# Altium schematic symbol library emi_filter.SchLib: 35 symbols
Pins are listed as number, name and electrical type; pins without a type are passive.

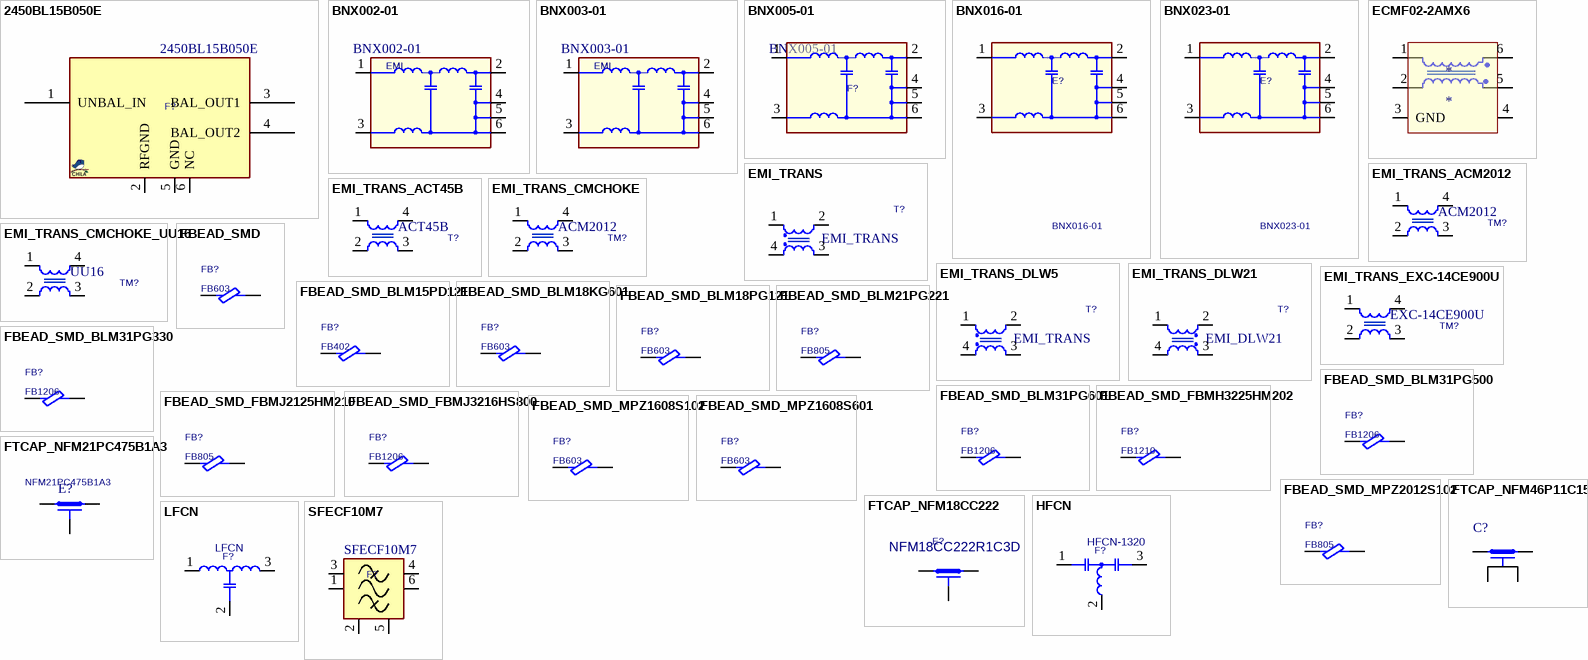
[diagram p0: symbols 2450BL15B050E to SFECF10M7]

## 2450BL15B050E
designator F?
High Frequency Ceramic Balun, 2.45 GHz; MANF: Johanson; PARAM2: 0.5W, 30mA; PARAM: 2.45GHz, 50Ohms, -40~85oC; MANF_P#: 2450BL15B050E; PRICE: 0.36$; VALUE: 2450BL15B050E
footprint FIL_6_0805 (Footprint not found)
pins: 1 UNBAL_IN, 2 RFGND, 3 BAL_OUT1, 4 BAL_OUT2, 5 GND, 6 NC

## BNX002-01
designator EMI
EMIFIL, BLOCK TYPE,; MANF: MURATA; MANF_P#: BNX002-01; VALUE: BNX002-01
footprint BNX002 (Footprint not found)
pins: 1 B, 2 CB, 3 PSG, 4 CG1, 5 CG2, 6 CG3

## BNX003-01
designator EMI
EMIFIL, BLOCK TYPE,; MANF: MURATA; MANF_P#: BNX003-01; VALUE: BNX003-01
footprint BNX002 (Footprint not found)
pins: 1 B, 2 CB, 3 PSG, 4 CG1, 5 CG2, 6 CG3

## BNX005-01
designator F?
EMIFIL, BLOCK TYPE,; MANF: MURATA; MANF_P#: BNX005-01; VALUE: BNX005-01
footprint BNX002 (MURATA EMIFIL)
pins: 1 B, 2 CB, 3 PSG, 4 CG1, 5 CG2, 6 CG3

## BNX016-01
designator E?
EMIFIL, BLOCK TYPE, 100kHz~1GHz 40dB min; MANF: Murata; DESC: DESCRIPTION; MANF_P#: BNX016-01; MANF: MURATA; ASSEMBLY: ASSEMBLY; PARAM: PARAM; PRICE: PRICE; VALUE: BNX016-01
footprint BNX01
pins: 1 B, 2 CB, 3 PSG, 4 CG1, 5 CG2, 6 CG3

## BNX023-01
designator E?
EMIFIL, BLOCK TYPE,; MANF: Murata; PARAM: 15A, 100V, -40~125oC, 1M~1GHz; DESC: DESCRIPTION; MANF_P#: BNX023-01; MANF: MURATA; ASSEMBLY: ASSEMBLY; PRICE: 6.5$; VALUE: BNX023-01
footprint BNX02 (MURATA EMIFIL SMD BNX023-01, BNX022)
pins: 1 B, 2 CB, 3 PSG, 4 CG1, 5 CG2, 6 CG3

## ECMF02-2AMX6
designator *
footprint SON40_6_1213 (DFN6 1.2x1.3mm, 6-Leads, Pitch 0.40mm)
pins: 1, 2, 3 GND, 4, 5, 6

## EMI_TRANS
designator T?
VALUE: EMI_TRANS
pins: 1 Pri+, 2 Pri-, 3 Sec-, 4 Sec+

## EMI_TRANS_ACM2012
designator TM?, comment ACM2012
Choke, Common Mode, FER BEAD 90 OHM@100MHZ 130mA 20%; MANF: TDK; MANF_P#: ACM2012-900-2P-T002; PARAM: 90 OHM@100MHZ, 0.4A; PRICE: 1=0.48, 10=0.448, 50=0.42, 100=0.364, 500=0.308, 1000=0.252 (USD); VALUE: ACM2012
footprint ACM2012 (Common Mode Chokes TDK ACM2012)
pins: 1, 2, 3, 4

## EMI_TRANS_ACT45B
designator T?, comment ACT45B
Choke, Common Mode, FER BEAD 90 OHM@100MHZ 130mA 20%; MANF: TDK; MANF_P#: ACT45B-510-2P-TL003; PARAM: 2000ohms 51uH 200mA CAN-BUS AEC-Q200; PRICE: 2$; VALUE: ACT45B
footprint ACT45B (Footprint not found)
pins: 1, 2, 3, 4

## EMI_TRANS_CMCHOKE
designator TM?, comment ACM2012
Choke, Common Mode, FER BEAD 90 OHM@100MHZ 130mA 20%; MANF: TDK; MANF_P#: ACM2012-900-2P-T002; PARAM: 90 OHM@100MHZ, 0.4A; PRICE: 1=0.48, 10=0.448, 50=0.42, 100=0.364, 500=0.308, 1000=0.252 (USD); VALUE: ACM2012
footprint FIL_6_0805 (Footprint not found)
pins: 1, 2, 3, 4

## EMI_TRANS_CMCHOKE_UU16
designator TM?, comment UU16
Choke, Common Mode, UU16; MANF: -; MANF_P#: UU16; PARAM: -; PRICE: -; VALUE: UU16
footprint CMCHOKE_UU16 (COMMON MODE CHOKE, UU16, UT2024)
pins: 1, 2, 3, 4

## EMI_TRANS_DLW5
designator T?, comment EMI_TRANS
EMI TRANS, DLW5; MANF: Murata; MANF_P#: DLW5BTM251TQ2L; PARAM2: 50v, -40°C~105°C; PARAM: 5A, 20mOhm, 250 Ohms@100MHz; PRICE: 1.2$; VALUE: EMI_TRANS
footprint DLW5_4A (EMI filter Murata, DLW5x, 5x5mm)
footprint DLW5_4 (EMI filter Murata, DLW5x, 5x5mm)
pins: 1 Pri+, 2 Pri-, 3 Sec-, 4 Sec+

## EMI_TRANS_DLW21
designator T?, comment EMI_DLW21
Choke, Common Mode; MANF: MURATA; MANF_P#: DLW21HN900SQ2L; PARAM: 90OHM; VALUE: EMI_DLW21
footprint DLW21 (Footprint not found)
pins: 1 Pri+, 2 Pri-, 3 Sec-, 4 Sec+

## EMI_TRANS_EXC-14CE900U
designator TM?, comment EXC-14CE900U
Choke, Common Mode, FER BEAD 90 OHM@100MHZ 130mA 20%; MANF: Panasonic; MANF_P#: EXC-14CE900U; PARAM: 90 OHM@100MHZ; VALUE: EXC-14CE900U
footprint FIL_4_0402X2 (0402X2, 0302, 0.85x0.65mm ,CommMode NoiseFilter)
pins: 1, 2, 3, 4

## FBEAD_SMD
designator FB?, comment FB603
FERRITE_Bead, SMD; MANF: MURATA; PARAM: 120@100MHz; PARAM2: 1A; MANF_P#: BLM15AG121SN1D; VALUE: FB603
footprint L0603 (INDUCTOR, FERRITE BEAD, 0603, 1.6X0.8mm)
footprint L0805 (INDUCTOR, FERRITE BEAD, 0805, 2.0X1.3mm)
footprint L1206 (INDUCTOR, FERRITE BEAD, 1206, 3.2X1.6mm)
pins: 1, 2

## FBEAD_SMD_BLM15PD121
designator FB?, comment FB402
FERRITE_Bead, 0402, 0.5A, 200mOhm, 120@100MHz; MANF: MURATA; MANF_P#: BLM15AG121SN1D; PARAM: 120@100MHz; PARAM2: 0.5A, 200mOhm; VALUE: FB402
footprint L0402 (INDUCTOR, FERRITE BEAD, 0402, 1.0X0.5mm)
pins: 1, 2

## FBEAD_SMD_BLM18KG601
designator FB?, comment FB603
FERRITE_Bead, 0603, 1.3A, 150mOhm, 600@100MHz; MANF: MURATA; MANF_P#: BLM18KG601SN1D; PARAM: 600@100MHz; PARAM2: 1.3A, 150mOhm; PRICE: 0.1$; VALUE: FB603
footprint L0603 (INDUCTOR, FERRITE BEAD, 0603, 1.6X0.8mm)
pins: 1, 2

## FBEAD_SMD_BLM18PG121
designator FB?, comment FB603
FERRITE_Bead, 0603, 2A, 50mOhm, 120@100MHz; MANF: MURATA; MANF_P#: BLM18PG121SN1D; PARAM: 120@100MHz; PARAM2: 2A, 50mOhm; VALUE: FB603
footprint L0603 (INDUCTOR, FERRITE BEAD, 0603, 1.6X0.8mm)
pins: 1, 2

## FBEAD_SMD_BLM21PG221
designator FB?, comment FB805
FERRITE_Bead, 0805, 2A, 50mOhm, 220@100MHz; MANF: MURATA; MANF_P#: BLM15AG121SN1D; PARAM: 220@100MHz; PARAM2: 2A, 50mOhm; VALUE: FB805
footprint L0805 (INDUCTOR, FERRITE BEAD, 0805, 2.0X1.3mm)
pins: 1, 2

## FBEAD_SMD_BLM31PG330
designator FB?, comment FB1206
FERRITE_Bead, 1206, 6A, 9mOhm, 33@100MHz; MANF: Murata; MANF_P#: BLM31PG330SN1L; PARAM: 33@100MHz; PARAM2: 6A, 9mOhm; VALUE: FB1206
footprint L1206 (INDUCTOR, FERRITE BEAD, 1206, 3.2X1.6mm)
pins: 1, 2

## FBEAD_SMD_BLM31PG500
designator FB?, comment FB1206
FERRITE_Bead, 1206, 3.5A, 15mOhm, 50@100MHz; MANF: Murata; MANF_P#: BLM31PG500SN1L; PARAM: 50@100MHz; PARAM2: 3.5A, 15mOhm; VALUE: FB1206
footprint L1206 (INDUCTOR, FERRITE BEAD, 1206, 3.2X1.6mm)
pins: 1, 2

## FBEAD_SMD_BLM31PG601
designator FB?, comment FB1206
FERRITE_Bead, 1206, 1.5A, 80mOhm, 600@100MHz; MANF: Murata; MANF_P#: BLM31PG601SN1L; PARAM: 600@100MHz; PARAM2: 1.5A, 80mOhm; VALUE: FB1206
footprint L1206 (INDUCTOR, FERRITE BEAD, 1206, 3.2X1.6mm)
pins: 1, 2

## FBEAD_SMD_FBMH3225HM202
designator FB?, comment FB1210
FERRITE_Bead, 1210, 1.2A, 130mOhm, 2000@100MHz; MANF: Taiyo Yuden; MANF_P#: FBMH3225HM202NT; PARAM: 2000@100MHz; PARAM2: 1.2A; PRICE: 10=1.8$; VALUE: FB1210
footprint L1210 (INDUCTOR, FERRITE BEAD, 1210, 3.2X2.5mm)
pins: 1, 2

## FBEAD_SMD_FBMJ2125HM210
designator FB?, comment FB805
FERRITE_Bead, 0805; MANF: Taiyo Yuden; PARAM: 21@100MHz, -40~125°C; PARAM2: 6A, 4mOhm; MANF_P#: FBMJ2125HM210NT; PRICE: 0.1$; VALUE: FB805
footprint L0805 (INDUCTOR, FERRITE BEAD, 0805, 2.0X1.3mm)
pins: 1, 2

## FBEAD_SMD_FBMJ3216HS800
designator FB?, comment FB1206
FERRITE_Bead, 1206, 4A, 10mOhm, 80@100MHz; MANF: Taiyo Yuden; MANF_P#: FBMJ3216HS800-T; PARAM: 80@100MHz; PARAM2: 4A, 10mOhm; VALUE: FB1206
footprint L1206 (INDUCTOR, FERRITE BEAD, 1206, 3.2X1.6mm)
pins: 1, 2

## FBEAD_SMD_MPZ1608S102
designator FB?, comment FB603
FERRITE_Bead, 0603, 0.8A, 300mOhm, 1000@100MHz; MANF: TDK; MANF_P#: MPZ1608S102ATA00; PARAM: 1000@100MHz; PARAM2: 0.8A; PRICE: 100= 3.4$; VALUE: FB603
footprint L0603 (INDUCTOR, FERRITE BEAD, 0603, 1.6X0.8mm)
pins: 1, 2

## FBEAD_SMD_MPZ1608S601
designator FB?, comment FB603
FERRITE_Bead, 0603, 1A, 150mOhm, 600@100MHz; MANF: TDK; MANF_P#: MPZ1608S601A; PARAM: 600@100MHz; PARAM2: 1A; VALUE: FB603
footprint L0603 (INDUCTOR, FERRITE BEAD, 0603, 1.6X0.8mm)
pins: 1, 2

## FBEAD_SMD_MPZ2012S102
designator FB?, comment FB805
FERRITE_Bead, 0805, 1.5A, 150mOhm, 1000@100MHz; MANF: TDK; MANF_P#: MPZ2012S102JTD25; PARAM: 1000@100MHz; PARAM2: 1.5A; PRICE: 100= 4.7$; VALUE: FB805
footprint L0805 (INDUCTOR, FERRITE BEAD, 0805, 2.0X1.3mm)
pins: 1, 2

## FTCAP_NFM18CC222
designator E?, comment MANF_P#: NFM18CC222R1C3D  (hidden comment: NFM18CC222R1C3)
FeedThrough CAP, 2200pF, 16V, 0.3A; MANF: MURATA; DESC: XYCAP, 2200pF, 16V, 0.3A; DIST#: MOUSER; VALUE: NFM18CC222R1C3; ASSEMBLY: ASSEMBLY; PARAM: 2200pF, 16V, 0.3A; PRICE: PRICE
footprint ELF0603 (1.6x0.8mm ELF NF MURATA EMI FILTER)
pins: 1 IO, 2 GND, 3 IO

## FTCAP_NFM21PC475B1A3
designator E?, comment NFM21PC475B1A3
FeedThrough CAP,; MANF: MURATA; MANF_P#: NFM21PC475B1A3; Value: NFM21PC475B1A3
simulation model CAP (Capacitor)
signal-integrity model Cap
footprint ELF0805
pins: 1 IO, 2 GND, 3 IO

## FTCAP_NFM46P11C155
designator C?, comment NFM46P11C155  (value not drawn)
Feed-Through Capacitor; MANF: MURATA; MANF_P#: NFM46P11C155; Value: NFM46P11C155
footprint ELF2220 (NFM46P11 5.7X5.00mm, NFM2220)
pins: 1, 2, 3, 4

## HFCN
designator F?, comment HFCN-1320
Filter, High Pass, 1400~5000MHz, 50Ohm; MANF: Mini-Circuits; MANF_P#: HFCN-1320; VALUE: HFCN-1320
footprint ELF1206 (320X160ELF)
pins: 1 IN, 2 GND, 3 OUT

## LFCN
designator F?
Filter, Low Pass,; MANF: Mini-Circuits; MANF_P#: LFCN-630; VALUE: LFCN
footprint ELF1206 (320X160ELF)
pins: 1 IN, 2 GND, 3 OUT

## SFECF10M7
designator F?
Filter, Ceramic, Band Pass filter; MANF: Murata; MANF_P#: SFECF10M7DA0001-R0; PARAM2: 10.7MHz; PRICE: 1.4$; VALUE: SFECF10M7
footprint SON128_6 (SFECF10M7, 3.1X3.45X1.3mm, 1.28mm pitch)
pins: 1 IN, 2 GND, 3 NC, 4 NC, 5 GND, 6 OUT